# EAGLE library part MONT-KRABICA (library TABOR K1)
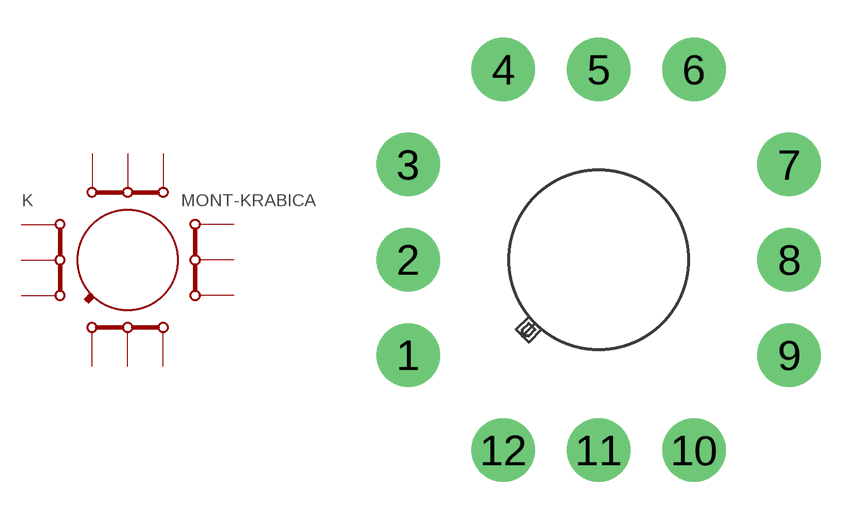
[diagram p19: symbol with the pads of MONT-KRABICA; footprint MONT-KRABICA]

Designator prefix K

## MONT-KRABICA"  [MONT-KRABICA]
1  1  pas
2  2  pas
3  3  pas
4  4  pas
5  5  pas
6  6  pas
7  7  pas
8  8  pas
9  9  pas
10  10  pas
11  11  pas
12  12  pas

## Footprint MONT-KRABICA (pad centres in mm)
drill 0.813 pad 2.54: 1 -7.62,-3.81; 2 -7.62,0; 3 -7.62,3.81; 4 -3.81,7.62; 5 0,7.62; 6 3.81,7.62; 7 7.62,3.81; 8 7.62,0; 9 7.62,-3.81; 10 3.81,-7.62; 11 0,-7.62; 12 -3.81,-7.62